# Altium schematic symbol library HT77xxS.SchLib: 1 symbol
Pins are listed as number, name and electrical type; pins without a type are passive.

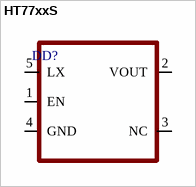
[diagram p0: symbol HT77xxS]

## HT77xxS
designator DD?
pins: 1 EN, 2 VOUT, 3 NC, 4 GND, 5 LX